# Altium integrated library HARTING DIN 41612 Type 2R.IntLib: 40 symbols
Pins are listed as number, name and electrical type; pins without a type are passive.

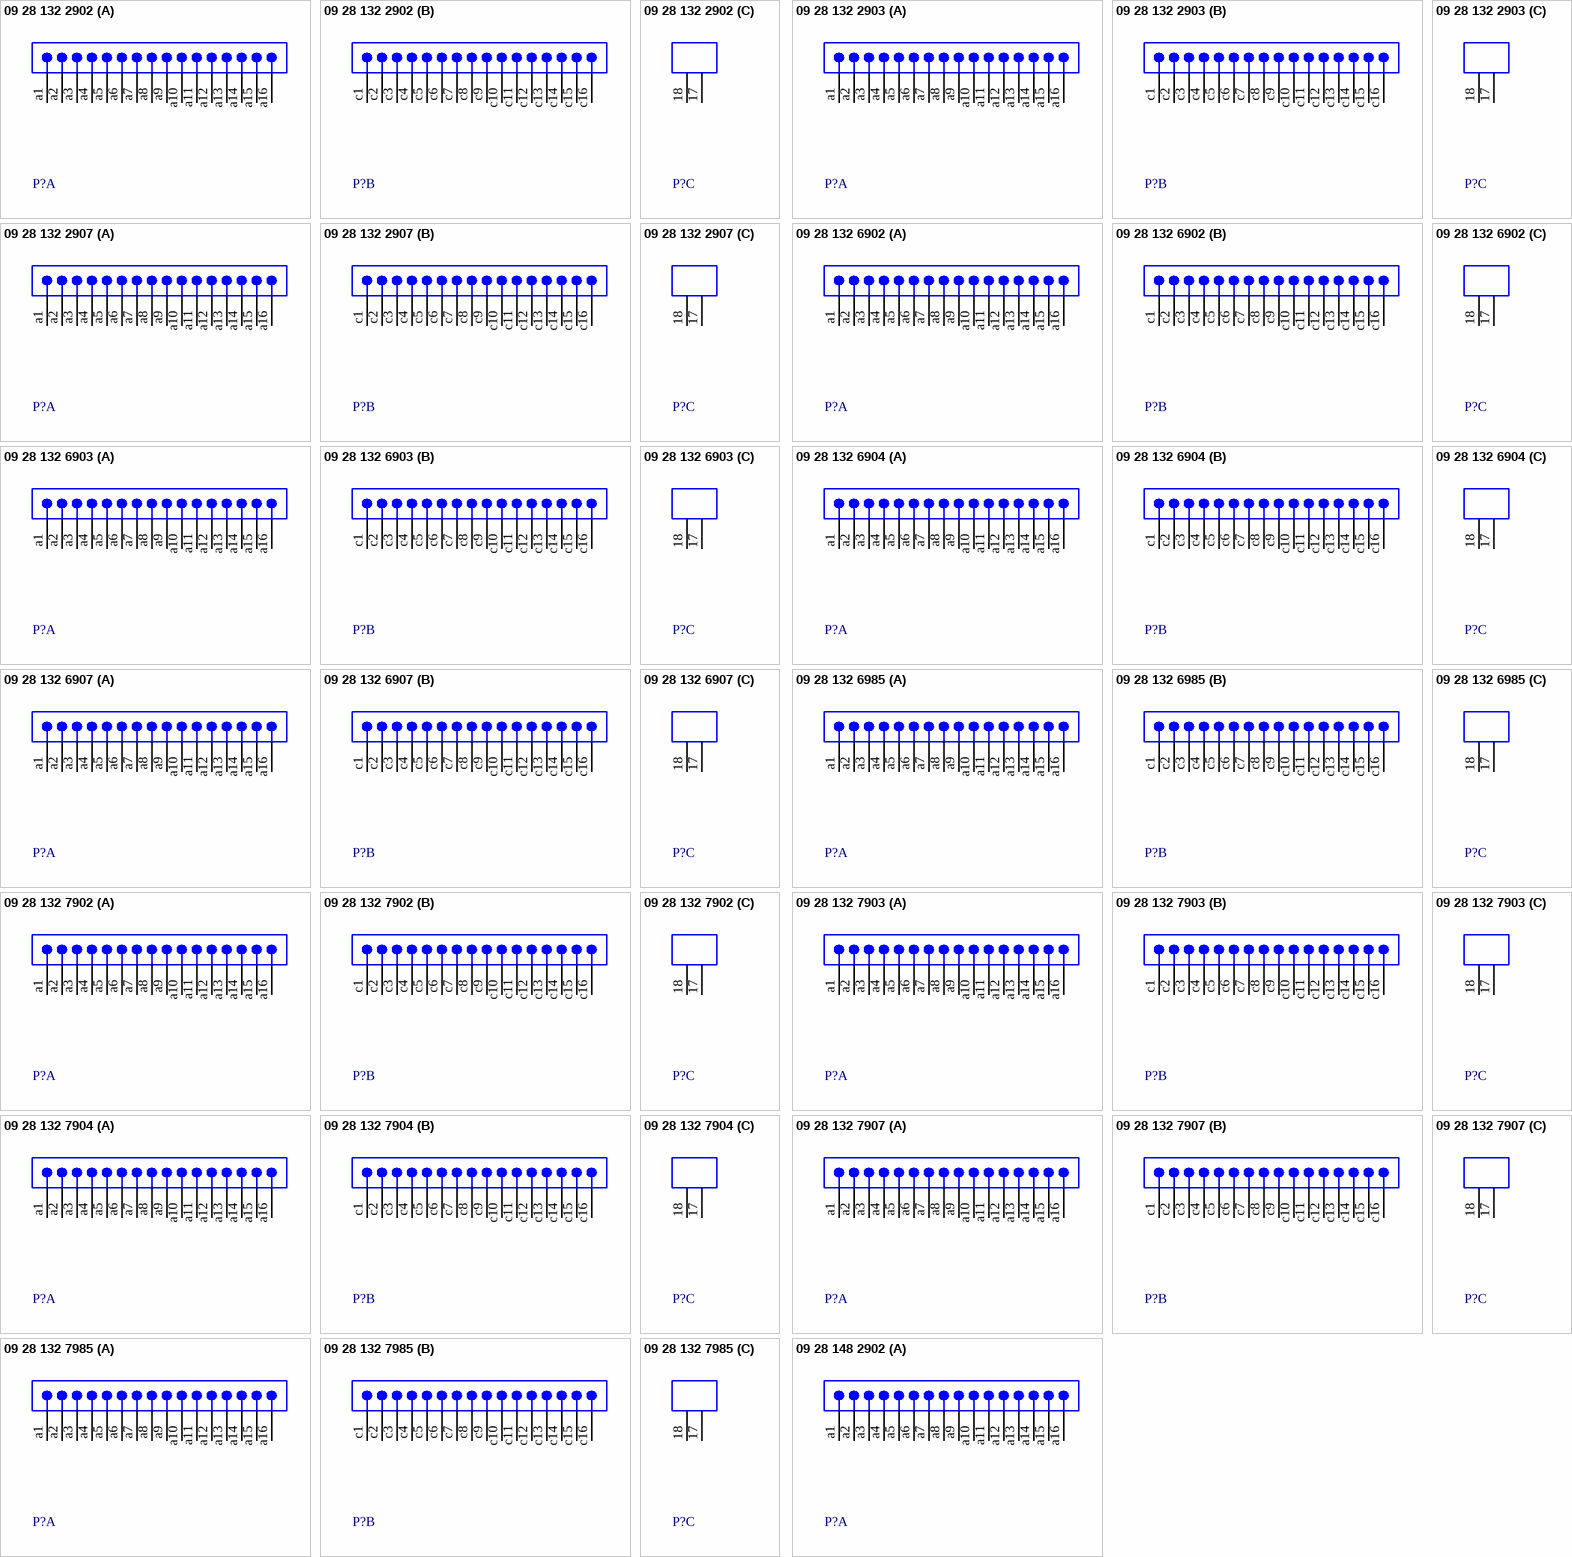
[diagram p0: symbols 09 28 132 2902 to 09 28 148 2902]

## 09 28 132 2902
designator P?
Eurocard DIN 41612, Type 2R, Half Size, 32 Position, Rows a+c, Performance level 1, Male, Lead 2.5 mm, Pitch 2.54 mm; DrillSize: Corresponds to nominal value.; Published: 6-Oct-2005; DatasheetDocument: 24-Nov-2004; PackageDocument: 12-Jun-2001; PackageReference: 0928132X902; Publisher: Altium Limited; ComponentLink1Description: Manufacturer Link; ComponentLink1URL: http://www.harting.com/; ComponentLink2Description: Packaging Specification; ComponentLink2URL: http://www.harkis.harting.com/_gds/pdf/TB_0928132x902_BL01_R29836.pdf
footprint 0928132X902 (Connector; DIN 41612, Type 2R, Thru-Hole; Rows a+c, 32 Position; Vertical)
signal-integrity model DIN 41612
part A pins: a1, a2, a3, a4, a5, a6, a7, a8, a9, a10, a11, a12, a13, a14, a15, a16
part B pins: c1, c2, c3, c4, c5, c6, c7, c8, c9, c10, c11, c12, c13, c14, c15, c16
part C pins: 17 MH1 "Mounting Fixture", 18 MH2 "Mounting Fixture"

## 09 28 132 2903
designator P?
Eurocard DIN 41612, Type 2R, Half Size, 32 Position, Rows a+c, Performance level 1, Male, Lead 4.0 mm, Pitch 2.54 mm; DrillSize: Corresponds to nominal value.; Published: 6-Oct-2005; DatasheetDocument: 24-Nov-2004; PackageDocument: 13-Jun-2001; PackageReference: 0928132X903; Publisher: Altium Limited; ComponentLink1Description: Manufacturer Link; ComponentLink1URL: http://www.harting.com/; ComponentLink2Description: Packaging Specification; ComponentLink2URL: http://www.harkis.harting.com/_gds/pdf/TB_0928132x903_BL01_R29836.pdf
footprint 0928132X903 (Connector; DIN 41612, Type 2R, Thru-Hole; Rows a+c, 32 Position; Vertical)
signal-integrity model DIN 41612
part A pins: a1, a2, a3, a4, a5, a6, a7, a8, a9, a10, a11, a12, a13, a14, a15, a16
part B pins: c1, c2, c3, c4, c5, c6, c7, c8, c9, c10, c11, c12, c13, c14, c15, c16
part C pins: 17 MH1 "Mounting Fixture", 18 MH2 "Mounting Fixture"

## 09 28 132 2907
designator P?
Eurocard DIN 41612, Type 2R, Half Size, 32 Position, Rows a+c, Performance level 1, Male, Lead 13.0 mm, Pitch 2.54 mm; DrillSize: Corresponds to nominal value.; Published: 6-Oct-2005; DatasheetDocument: 24-Nov-2004; PackageDocument: 13-Jun-2001; PackageReference: 0928132X907; Publisher: Altium Limited; ComponentLink1Description: Manufacturer Link; ComponentLink1URL: http://www.harting.com/; ComponentLink2Description: Packaging Specification; ComponentLink2URL: http://www.harkis.harting.com/_gds/pdf/TB_0928132x907_BL01_R29836.pdf
footprint 0928132X907 (Connector; DIN 41612, Type 2R, Thru-Hole; Rows a+c, 32 Position; Vertical)
signal-integrity model DIN 41612
part A pins: a1, a2, a3, a4, a5, a6, a7, a8, a9, a10, a11, a12, a13, a14, a15, a16
part B pins: c1, c2, c3, c4, c5, c6, c7, c8, c9, c10, c11, c12, c13, c14, c15, c16
part C pins: 17 MH1 "Mounting Fixture", 18 MH2 "Mounting Fixture"

## 09 28 132 6902
designator P?
Eurocard DIN 41612, Type 2R, Half Size, 32 Position, Rows a+c, Performance level 2, Male, Lead 2.5 mm, Pitch 2.54 mm; DrillSize: Corresponds to nominal value.; Published: 6-Oct-2005; DatasheetDocument: 24-Nov-2004; PackageDocument: 12-Jun-2001; PackageReference: 0928132X902; Publisher: Altium Limited; ComponentLink1Description: Manufacturer Link; ComponentLink1URL: http://www.harting.com/; ComponentLink2Description: Packaging Specification; ComponentLink2URL: http://www.harkis.harting.com/_gds/pdf/TB_0928132x902_BL01_R29836.pdf
footprint 0928132X902 (Connector; DIN 41612, Type 2R, Thru-Hole; Rows a+c, 32 Position; Vertical)
signal-integrity model DIN 41612
part A pins: a1, a2, a3, a4, a5, a6, a7, a8, a9, a10, a11, a12, a13, a14, a15, a16
part B pins: c1, c2, c3, c4, c5, c6, c7, c8, c9, c10, c11, c12, c13, c14, c15, c16
part C pins: 17 MH1 "Mounting Fixture", 18 MH2 "Mounting Fixture"

## 09 28 132 6903
designator P?
Eurocard DIN 41612, Type 2R, Half Size, 32 Position, Rows a+c, Performance level 2, Male, Lead 4.0 mm, Pitch 2.54 mm; DrillSize: Corresponds to nominal value.; Published: 6-Oct-2005; DatasheetDocument: 24-Nov-2004; PackageDocument: 13-Jun-2001; PackageReference: 0928132X903; Publisher: Altium Limited; ComponentLink1Description: Manufacturer Link; ComponentLink1URL: http://www.harting.com/; ComponentLink2Description: Packaging Specification; ComponentLink2URL: http://www.harkis.harting.com/_gds/pdf/TB_0928132x903_BL01_R29836.pdf
footprint 0928132X903 (Connector; DIN 41612, Type 2R, Thru-Hole; Rows a+c, 32 Position; Vertical)
signal-integrity model DIN 41612
part A pins: a1, a2, a3, a4, a5, a6, a7, a8, a9, a10, a11, a12, a13, a14, a15, a16
part B pins: c1, c2, c3, c4, c5, c6, c7, c8, c9, c10, c11, c12, c13, c14, c15, c16
part C pins: 17 MH1 "Mounting Fixture", 18 MH2 "Mounting Fixture"

## 09 28 132 6904
designator P?
Eurocard DIN 41612, Type 2R, Half Size, 32 Position, Rows a+c, Performance level 2, Male, Lead 5.0 mm, Pitch 2.54 mm; DrillSize: Corresponds to nominal value.; Published: 6-Oct-2005; DatasheetDocument: 24-Nov-2004; PackageDocument: 22-Jun-2001; PackageReference: 0928132X904; Publisher: Altium Limited; ComponentLink1Description: Manufacturer Link; ComponentLink1URL: http://www.harting.com/; ComponentLink2Description: Packaging Specification; ComponentLink2URL: http://www.harkis.harting.com/_gds/pdf/TB_0928132x904_BL01_R29835.pdf
footprint 0928132X904 (Connector; DIN 41612, Type 2R, Thru-Hole; Rows a+c, 32 Position; Vertical)
signal-integrity model DIN 41612
part A pins: a1, a2, a3, a4, a5, a6, a7, a8, a9, a10, a11, a12, a13, a14, a15, a16
part B pins: c1, c2, c3, c4, c5, c6, c7, c8, c9, c10, c11, c12, c13, c14, c15, c16
part C pins: 17 MH1 "Mounting Fixture", 18 MH2 "Mounting Fixture"

## 09 28 132 6907
designator P?
Eurocard DIN 41612, Type 2R, Half Size, 32 Position, Rows a+c, Performance level 2, Male, Lead 13.0 mm, Pitch 2.54 mm; DrillSize: Corresponds to nominal value.; Published: 6-Oct-2005; DatasheetDocument: 24-Nov-2004; PackageDocument: 13-Jun-2001; PackageReference: 0928132X907; Publisher: Altium Limited; ComponentLink1Description: Manufacturer Link; ComponentLink1URL: http://www.harting.com/; ComponentLink2Description: Packaging Specification; ComponentLink2URL: http://www.harkis.harting.com/_gds/pdf/TB_0928132x907_BL01_R29836.pdf
footprint 0928132X907 (Connector; DIN 41612, Type 2R, Thru-Hole; Rows a+c, 32 Position; Vertical)
signal-integrity model DIN 41612
part A pins: a1, a2, a3, a4, a5, a6, a7, a8, a9, a10, a11, a12, a13, a14, a15, a16
part B pins: c1, c2, c3, c4, c5, c6, c7, c8, c9, c10, c11, c12, c13, c14, c15, c16
part C pins: 17 MH1 "Mounting Fixture", 18 MH2 "Mounting Fixture"

## 09 28 132 6985
designator P?
Eurocard DIN 41612, Type 2R, Half Size, 32 Position, Rows a+c, Performance level 2, Male, Lead 13.0 mm, Pitch 2.54 mm; DrillSize: Corresponds to nominal value.; Published: 6-Oct-2005; DatasheetDocument: 24-Nov-2004; PackageDocument: 22-Jun-2001; PackageReference: 0928132X985; Publisher: Altium Limited; ComponentLink1Description: Manufacturer Link; ComponentLink1URL: http://www.harting.com/; ComponentLink2Description: Packaging Specification; ComponentLink2URL: http://www.harkis.harting.com/_gds/pdf/TB_0928132x985_BL01_R29835.pdf
footprint 0928132X985 (Connector; DIN 41612, Type 2R, Thru-Hole; Rows a+c, 32 Position; Vertical)
signal-integrity model DIN 41612
part A pins: a1, a2, a3, a4, a5, a6, a7, a8, a9, a10, a11, a12, a13, a14, a15, a16
part B pins: c1, c2, c3, c4, c5, c6, c7, c8, c9, c10, c11, c12, c13, c14, c15, c16
part C pins: 17 MH1 "Mounting Fixture", 18 MH2 "Mounting Fixture"

## 09 28 132 7902
designator P?
Eurocard DIN 41612, Type 2R, Half Size, 32 Position, Rows a+c, Performance level 3, Male, Lead 2.5 mm, Pitch 2.54 mm; DrillSize: Corresponds to nominal value.; Published: 6-Oct-2005; DatasheetDocument: 24-Nov-2004; PackageDocument: 12-Jun-2001; PackageReference: 0928132X902; Publisher: Altium Limited; ComponentLink1Description: Manufacturer Link; ComponentLink1URL: http://www.harting.com/; ComponentLink2Description: Packaging Specification; ComponentLink2URL: http://www.harkis.harting.com/_gds/pdf/TB_0928132x902_BL01_R29836.pdf
footprint 0928132X902 (Connector; DIN 41612, Type 2R, Thru-Hole; Rows a+c, 32 Position; Vertical)
signal-integrity model DIN 41612
part A pins: a1, a2, a3, a4, a5, a6, a7, a8, a9, a10, a11, a12, a13, a14, a15, a16
part B pins: c1, c2, c3, c4, c5, c6, c7, c8, c9, c10, c11, c12, c13, c14, c15, c16
part C pins: 17 MH1 "Mounting Fixture", 18 MH2 "Mounting Fixture"

## 09 28 132 7903
designator P?
Eurocard DIN 41612, Type 2R, Half Size, 32 Position, Rows a+c, Performance level 3, Male, Lead 4.0 mm, Pitch 2.54 mm; DrillSize: Corresponds to nominal value.; Published: 6-Oct-2005; DatasheetDocument: 24-Nov-2004; PackageDocument: 13-Jun-2001; PackageReference: 0928132X903; Publisher: Altium Limited; ComponentLink1Description: Manufacturer Link; ComponentLink1URL: http://www.harting.com/; ComponentLink2Description: Packaging Specification; ComponentLink2URL: http://www.harkis.harting.com/_gds/pdf/TB_0928132x903_BL01_R29836.pdf
footprint 0928132X903 (Connector; DIN 41612, Type 2R, Thru-Hole; Rows a+c, 32 Position; Vertical)
signal-integrity model DIN 41612
part A pins: a1, a2, a3, a4, a5, a6, a7, a8, a9, a10, a11, a12, a13, a14, a15, a16
part B pins: c1, c2, c3, c4, c5, c6, c7, c8, c9, c10, c11, c12, c13, c14, c15, c16
part C pins: 17 MH1 "Mounting Fixture", 18 MH2 "Mounting Fixture"

## 09 28 132 7904
designator P?
Eurocard DIN 41612, Type 2R, Half Size, 32 Position, Rows a+c, Performance level 3, Male, Lead 5.0 mm, Pitch 2.54 mm; DrillSize: Corresponds to nominal value.; Published: 6-Oct-2005; DatasheetDocument: 24-Nov-2004; PackageDocument: 22-Jun-2001; PackageReference: 0928132X904; Publisher: Altium Limited; ComponentLink1Description: Manufacturer Link; ComponentLink1URL: http://www.harting.com/; ComponentLink2Description: Packaging Specification; ComponentLink2URL: http://www.harkis.harting.com/_gds/pdf/TB_0928132x904_BL01_R29835.pdf
footprint 0928132X904 (Connector; DIN 41612, Type 2R, Thru-Hole; Rows a+c, 32 Position; Vertical)
signal-integrity model DIN 41612
part A pins: a1, a2, a3, a4, a5, a6, a7, a8, a9, a10, a11, a12, a13, a14, a15, a16
part B pins: c1, c2, c3, c4, c5, c6, c7, c8, c9, c10, c11, c12, c13, c14, c15, c16
part C pins: 17 MH1 "Mounting Fixture", 18 MH2 "Mounting Fixture"

## 09 28 132 7907
designator P?
Eurocard DIN 41612, Type 2R, Half Size, 32 Position, Rows a+c, Performance level 3, Male, Lead 13.0 mm, Pitch 2.54 mm; DrillSize: Corresponds to nominal value.; Published: 6-Oct-2005; DatasheetDocument: 24-Nov-2004; PackageDocument: 13-Jun-2001; PackageReference: 0928132X907; Publisher: Altium Limited; ComponentLink1Description: Manufacturer Link; ComponentLink1URL: http://www.harting.com/; ComponentLink2Description: Packaging Specification; ComponentLink2URL: http://www.harkis.harting.com/_gds/pdf/TB_0928132x907_BL01_R29836.pdf
footprint 0928132X907 (Connector; DIN 41612, Type 2R, Thru-Hole; Rows a+c, 32 Position; Vertical)
signal-integrity model DIN 41612
part A pins: a1, a2, a3, a4, a5, a6, a7, a8, a9, a10, a11, a12, a13, a14, a15, a16
part B pins: c1, c2, c3, c4, c5, c6, c7, c8, c9, c10, c11, c12, c13, c14, c15, c16
part C pins: 17 MH1 "Mounting Fixture", 18 MH2 "Mounting Fixture"

## 09 28 132 7985
designator P?
Eurocard DIN 41612, Type 2R, Half Size, 32 Position, Rows a+c, Performance level 3, Male, Lead 13.0 mm, Pitch 2.54 mm; DrillSize: Corresponds to nominal value.; Published: 6-Oct-2005; DatasheetDocument: 24-Nov-2004; PackageDocument: 22-Jun-2001; PackageReference: 0928132X985; Publisher: Altium Limited; ComponentLink1Description: Manufacturer Link; ComponentLink1URL: http://www.harting.com/; ComponentLink2Description: Packaging Specification; ComponentLink2URL: http://www.harkis.harting.com/_gds/pdf/TB_0928132x985_BL01_R29835.pdf
footprint 0928132X985 (Connector; DIN 41612, Type 2R, Thru-Hole; Rows a+c, 32 Position; Vertical)
signal-integrity model DIN 41612
part A pins: a1, a2, a3, a4, a5, a6, a7, a8, a9, a10, a11, a12, a13, a14, a15, a16
part B pins: c1, c2, c3, c4, c5, c6, c7, c8, c9, c10, c11, c12, c13, c14, c15, c16
part C pins: 17 MH1 "Mounting Fixture", 18 MH2 "Mounting Fixture"

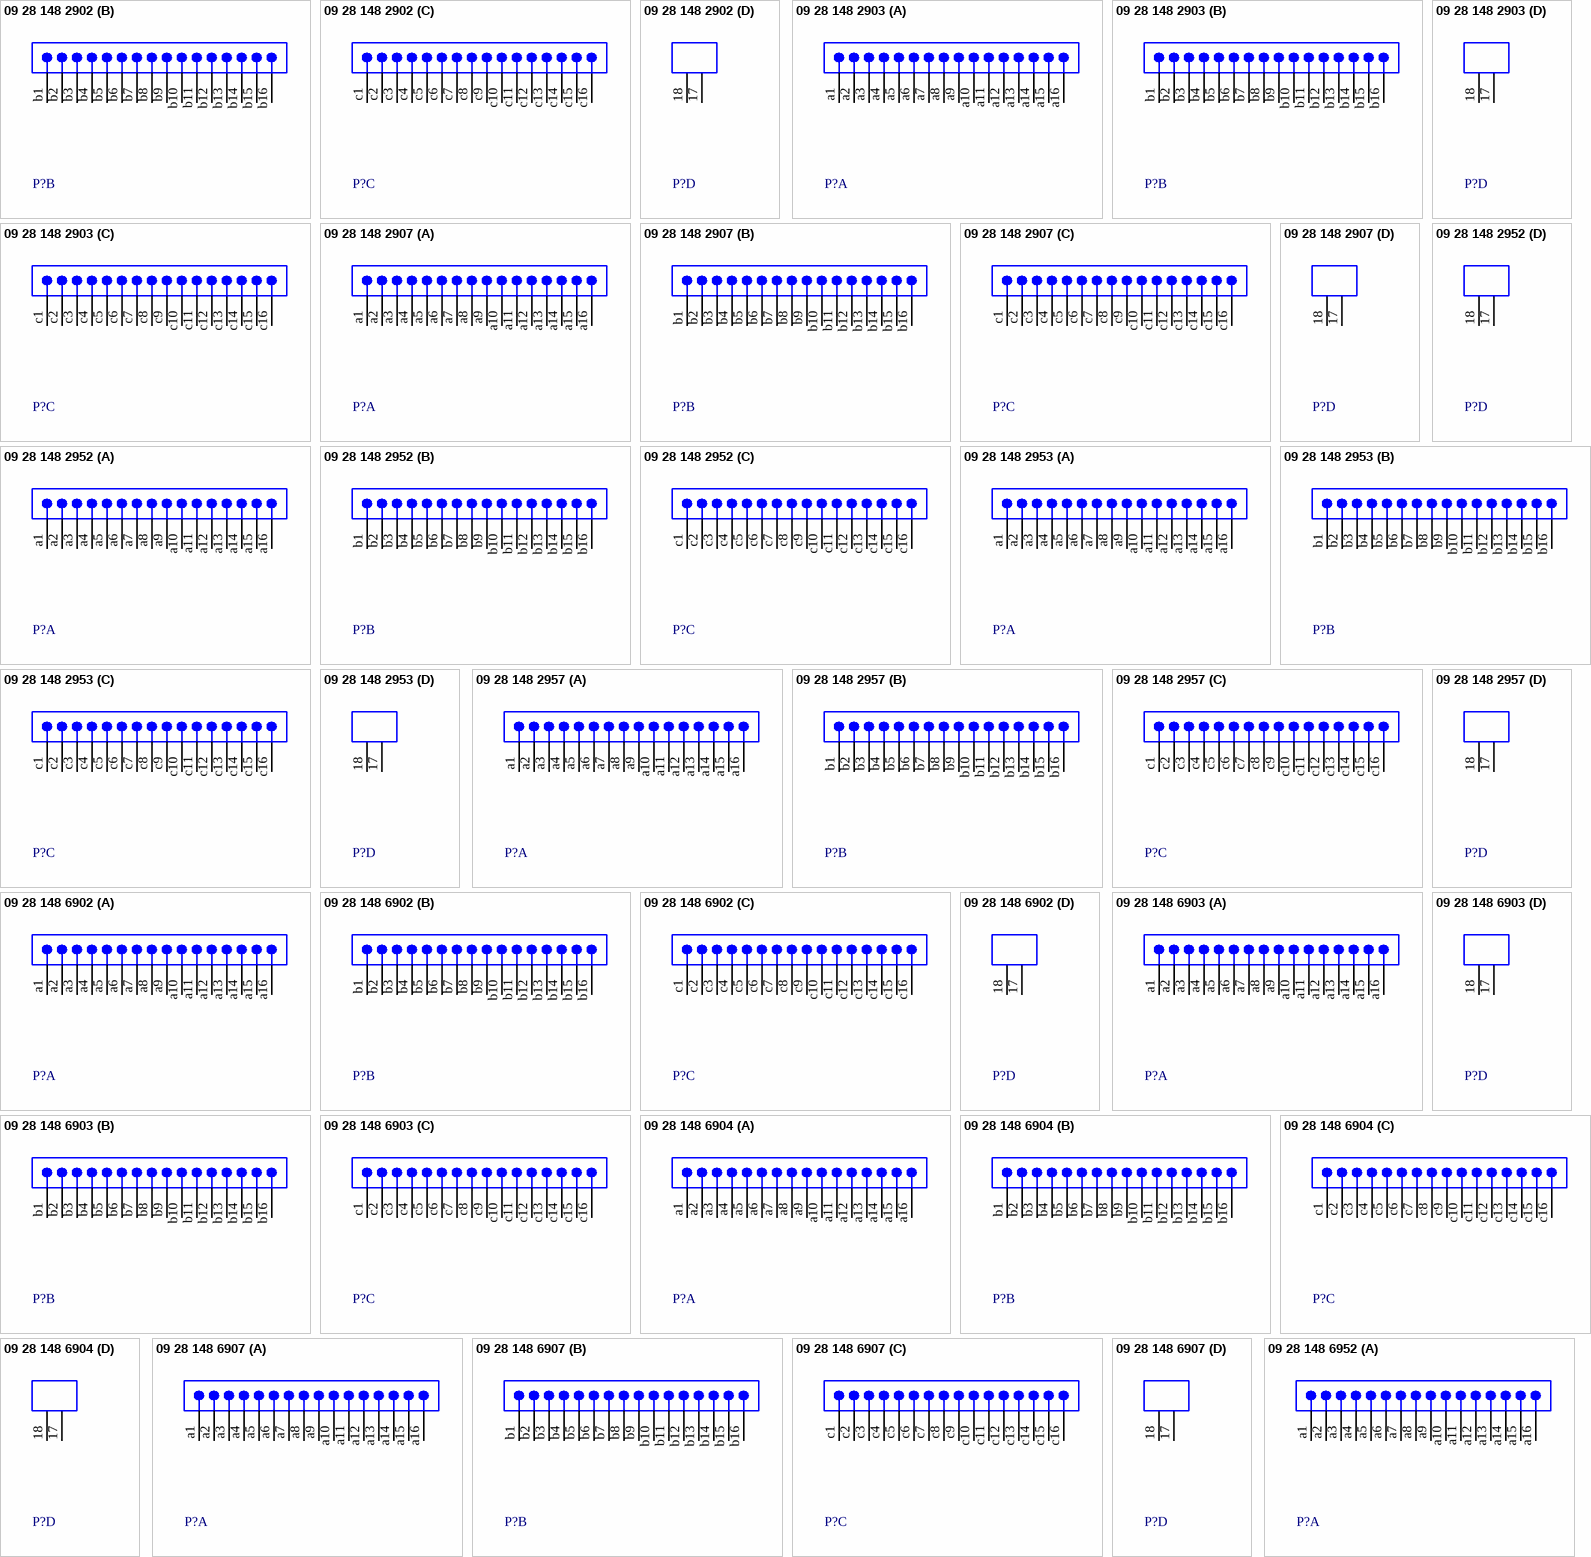
[diagram p1: symbols 09 28 148 2902 to 09 28 148 6952]

## 09 28 148 2902
designator P?
Eurocard DIN 41612, Type 2R, Half Size, 48 Position, Rows a+b+c, Performance level 1, Male, Lead 2.5 mm, Pitch 2.54 mm; DrillSize: Corresponds to nominal value.; Published: 6-Oct-2005; DatasheetDocument: 24-Nov-2004; PackageDocument: 11-Jun-2001; PackageReference: 0928148X902; Publisher: Altium Limited; ComponentLink1Description: Manufacturer Link; ComponentLink1URL: http://www.harting.com/; ComponentLink2Description: Packaging Specification; ComponentLink2URL: http://www.harkis.harting.com/_gds/pdf/TB_0928148x902_BL01_R29836.pdf
footprint 0928148X902 (Connector; DIN 41612, Type 2R, Thru-Hole; Rows a+b+c, 48 Position; Vertical)
signal-integrity model DIN 41612
part A pins: a1, a2, a3, a4, a5, a6, a7, a8, a9, a10, a11, a12, a13, a14, a15, a16
part B pins: b1, b2, b3, b4, b5, b6, b7, b8, b9, b10, b11, b12, b13, b14, b15, b16
part C pins: c1, c2, c3, c4, c5, c6, c7, c8, c9, c10, c11, c12, c13, c14, c15, c16
part D pins: 17 MH1 "Mounting Fixture", 18 MH2 "Mounting Fixture"

## 09 28 148 2903
designator P?
Eurocard DIN 41612, Type 2R, Half Size, 48 Position, Rows a+b+c, Performance level 1, Male, Lead 4.0 mm, Pitch 2.54 mm; DrillSize: Corresponds to nominal value.; Published: 6-Oct-2005; DatasheetDocument: 24-Nov-2004; PackageDocument: 11-Jun-2001; PackageReference: 0928148X903; Publisher: Altium Limited; ComponentLink1Description: Manufacturer Link; ComponentLink1URL: http://www.harting.com/; ComponentLink2Description: Packaging Specification; ComponentLink2URL: http://www.harkis.harting.com/_gds/pdf/TB_0928148x903_BL01_R29836.pdf
footprint 0928148X903 (Connector; DIN 41612, Type 2R, Thru-Hole; Rows a+b+c, 48 Position; Vertical)
signal-integrity model DIN 41612
part A pins: a1, a2, a3, a4, a5, a6, a7, a8, a9, a10, a11, a12, a13, a14, a15, a16
part B pins: b1, b2, b3, b4, b5, b6, b7, b8, b9, b10, b11, b12, b13, b14, b15, b16
part C pins: c1, c2, c3, c4, c5, c6, c7, c8, c9, c10, c11, c12, c13, c14, c15, c16
part D pins: 17 MH1 "Mounting Fixture", 18 MH2 "Mounting Fixture"

## 09 28 148 2907
designator P?
Eurocard DIN 41612, Type 2R, Half Size, 48 Position, Rows a+b+c, Performance level 1, Male, Lead 13.0 mm, Pitch 2.54 mm; DrillSize: Corresponds to nominal value.; Published: 6-Oct-2005; DatasheetDocument: 24-Nov-2004; PackageDocument: 07-Jun-2001; PackageReference: 0928148X907; Publisher: Altium Limited; ComponentLink1Description: Manufacturer Link; ComponentLink1URL: http://www.harting.com/; ComponentLink2Description: Packaging Specification; ComponentLink2URL: http://www.harkis.harting.com/_gds/pdf/TB_0928148x907_BL01_R29836.pdf
footprint 0928148X907 (Connector; DIN 41612, Type 2R, Thru-Hole; Rows a+b+c, 48 Position; Vertical)
signal-integrity model DIN 41612
part A pins: a1, a2, a3, a4, a5, a6, a7, a8, a9, a10, a11, a12, a13, a14, a15, a16
part B pins: b1, b2, b3, b4, b5, b6, b7, b8, b9, b10, b11, b12, b13, b14, b15, b16
part C pins: c1, c2, c3, c4, c5, c6, c7, c8, c9, c10, c11, c12, c13, c14, c15, c16
part D pins: 17 MH1 "Mounting Fixture", 18 MH2 "Mounting Fixture"

## 09 28 148 2952
designator P?
Eurocard DIN 41612, Type 2R, Half Size, 46+2 Position, Rows a+b+c, Performance level 1, Male, Lead 2.5 mm, Pitch 2.54 mm; Note: Two leading contacts at positions a1 & a16.; DrillSize: Corresponds to nominal value.; Published: 6-Oct-2005; DatasheetDocument: 24-Nov-2004; PackageReference: 0928148X952; Publisher: Altium Limited; ComponentLink1Description: Manufacturer Link; ComponentLink1URL: http://www.harting.com/
footprint 0928148X952 (Connector; DIN 41612, Type 2R, Thru-Hole; Rows a+b+c, 48 Position; Vertical)
signal-integrity model DIN 41612
part A pins: a1, a2, a3, a4, a5, a6, a7, a8, a9, a10, a11, a12, a13, a14, a15, a16
part B pins: b1, b2, b3, b4, b5, b6, b7, b8, b9, b10, b11, b12, b13, b14, b15, b16
part C pins: c1, c2, c3, c4, c5, c6, c7, c8, c9, c10, c11, c12, c13, c14, c15, c16
part D pins: 17 MH1 "Mounting Fixture", 18 MH2 "Mounting Fixture"

## 09 28 148 2953
designator P?
Eurocard DIN 41612, Type 2R, Half Size, 46+2 Position, Rows a+b+c, Performance level 1, Male, Lead 4.0 mm, Pitch 2.54 mm; Note: Two leading contacts at positions a1 & a16.; DrillSize: Corresponds to nominal value.; Published: 6-Oct-2005; DatasheetDocument: 24-Nov-2004; PackageReference: 0928148X953; Publisher: Altium Limited; ComponentLink1Description: Manufacturer Link; ComponentLink1URL: http://www.harting.com/
footprint 0928148X953 (Connector; DIN 41612, Type 2R, Thru-Hole; Rows a+b+c, 48 Position; Vertical)
signal-integrity model DIN 41612
part A pins: a1, a2, a3, a4, a5, a6, a7, a8, a9, a10, a11, a12, a13, a14, a15, a16
part B pins: b1, b2, b3, b4, b5, b6, b7, b8, b9, b10, b11, b12, b13, b14, b15, b16
part C pins: c1, c2, c3, c4, c5, c6, c7, c8, c9, c10, c11, c12, c13, c14, c15, c16
part D pins: 17 MH1 "Mounting Fixture", 18 MH2 "Mounting Fixture"

## 09 28 148 2957
designator P?
Eurocard DIN 41612, Type 2R, Half Size, 46+2 Position, Rows a+b+c, Performance level 1, Male, Lead 13.0 mm, Pitch 2.54 mm; Note: Two leading contacts at positions a1 & a16.; DrillSize: Corresponds to nominal value.; Published: 6-Oct-2005; DatasheetDocument: 24-Nov-2004; PackageReference: 0928148X957; Publisher: Altium Limited; ComponentLink1Description: Manufacturer Link; ComponentLink1URL: http://www.harting.com/
footprint 0928148X957 (Connector; DIN 41612, Type 2R, Thru-Hole; Rows a+b+c, 48 Position; Vertical)
signal-integrity model DIN 41612
part A pins: a1, a2, a3, a4, a5, a6, a7, a8, a9, a10, a11, a12, a13, a14, a15, a16
part B pins: b1, b2, b3, b4, b5, b6, b7, b8, b9, b10, b11, b12, b13, b14, b15, b16
part C pins: c1, c2, c3, c4, c5, c6, c7, c8, c9, c10, c11, c12, c13, c14, c15, c16
part D pins: 17 MH1 "Mounting Fixture", 18 MH2 "Mounting Fixture"

## 09 28 148 6902
designator P?
Eurocard DIN 41612, Type 2R, Half Size, 48 Position, Rows a+b+c, Performance level 2, Male, Lead 2.5 mm, Pitch 2.54 mm; DrillSize: Corresponds to nominal value.; Published: 6-Oct-2005; DatasheetDocument: 24-Nov-2004; PackageDocument: 11-Jun-2001; PackageReference: 0928148X902; Publisher: Altium Limited; ComponentLink1Description: Manufacturer Link; ComponentLink1URL: http://www.harting.com/; ComponentLink2Description: Packaging Specification; ComponentLink2URL: http://www.harkis.harting.com/_gds/pdf/TB_0928148x902_BL01_R29836.pdf
footprint 0928148X902 (Connector; DIN 41612, Type 2R, Thru-Hole; Rows a+b+c, 48 Position; Vertical)
signal-integrity model DIN 41612
part A pins: a1, a2, a3, a4, a5, a6, a7, a8, a9, a10, a11, a12, a13, a14, a15, a16
part B pins: b1, b2, b3, b4, b5, b6, b7, b8, b9, b10, b11, b12, b13, b14, b15, b16
part C pins: c1, c2, c3, c4, c5, c6, c7, c8, c9, c10, c11, c12, c13, c14, c15, c16
part D pins: 17 MH1 "Mounting Fixture", 18 MH2 "Mounting Fixture"

## 09 28 148 6903
designator P?
Eurocard DIN 41612, Type 2R, Half Size, 48 Position, Rows a+b+c, Performance level 2, Male, Lead 4.0 mm, Pitch 2.54 mm; DrillSize: Corresponds to nominal value.; Published: 6-Oct-2005; DatasheetDocument: 24-Nov-2004; PackageDocument: 11-Jun-2001; PackageReference: 0928148X903; Publisher: Altium Limited; ComponentLink1Description: Manufacturer Link; ComponentLink1URL: http://www.harting.com/; ComponentLink2Description: Packaging Specification; ComponentLink2URL: http://www.harkis.harting.com/_gds/pdf/TB_0928148x903_BL01_R29836.pdf
footprint 0928148X903 (Connector; DIN 41612, Type 2R, Thru-Hole; Rows a+b+c, 48 Position; Vertical)
signal-integrity model DIN 41612
part A pins: a1, a2, a3, a4, a5, a6, a7, a8, a9, a10, a11, a12, a13, a14, a15, a16
part B pins: b1, b2, b3, b4, b5, b6, b7, b8, b9, b10, b11, b12, b13, b14, b15, b16
part C pins: c1, c2, c3, c4, c5, c6, c7, c8, c9, c10, c11, c12, c13, c14, c15, c16
part D pins: 17 MH1 "Mounting Fixture", 18 MH2 "Mounting Fixture"

## 09 28 148 6904
designator P?
Eurocard DIN 41612, Type 2R, Half Size, 48 Position, Rows a+b+c, Performance level 2, Male, Lead 5.0 mm, Pitch 2.54 mm; DrillSize: Corresponds to nominal value.; Published: 6-Oct-2005; DatasheetDocument: 24-Nov-2004; PackageDocument: 21-Jun-2001; PackageReference: 0928148X904; Publisher: Altium Limited; ComponentLink1Description: Manufacturer Link; ComponentLink1URL: http://www.harting.com/; ComponentLink2Description: Packaging Specification; ComponentLink2URL: http://www.harkis.harting.com/_gds/pdf/TB_0928148x904_BL01_R29835.pdf
footprint 0928148X904 (Connector; DIN 41612, Type 2R, Thru-Hole; Rows a+b+c, 48 Position; Vertical)
signal-integrity model DIN 41612
part A pins: a1, a2, a3, a4, a5, a6, a7, a8, a9, a10, a11, a12, a13, a14, a15, a16
part B pins: b1, b2, b3, b4, b5, b6, b7, b8, b9, b10, b11, b12, b13, b14, b15, b16
part C pins: c1, c2, c3, c4, c5, c6, c7, c8, c9, c10, c11, c12, c13, c14, c15, c16
part D pins: 17 MH1 "Mounting Fixture", 18 MH2 "Mounting Fixture"

## 09 28 148 6907
designator P?
Eurocard DIN 41612, Type 2R, Half Size, 48 Position, Rows a+b+c, Performance level 2, Male, Lead 13.0 mm, Pitch 2.54 mm; DrillSize: Corresponds to nominal value.; Published: 6-Oct-2005; DatasheetDocument: 24-Nov-2004; PackageDocument: 07-Jun-2001; PackageReference: 0928148X907; Publisher: Altium Limited; ComponentLink1Description: Manufacturer Link; ComponentLink1URL: http://www.harting.com/; ComponentLink2Description: Packaging Specification; ComponentLink2URL: http://www.harkis.harting.com/_gds/pdf/TB_0928148x907_BL01_R29836.pdf
footprint 0928148X907 (Connector; DIN 41612, Type 2R, Thru-Hole; Rows a+b+c, 48 Position; Vertical)
signal-integrity model DIN 41612
part A pins: a1, a2, a3, a4, a5, a6, a7, a8, a9, a10, a11, a12, a13, a14, a15, a16
part B pins: b1, b2, b3, b4, b5, b6, b7, b8, b9, b10, b11, b12, b13, b14, b15, b16
part C pins: c1, c2, c3, c4, c5, c6, c7, c8, c9, c10, c11, c12, c13, c14, c15, c16
part D pins: 17 MH1 "Mounting Fixture", 18 MH2 "Mounting Fixture"

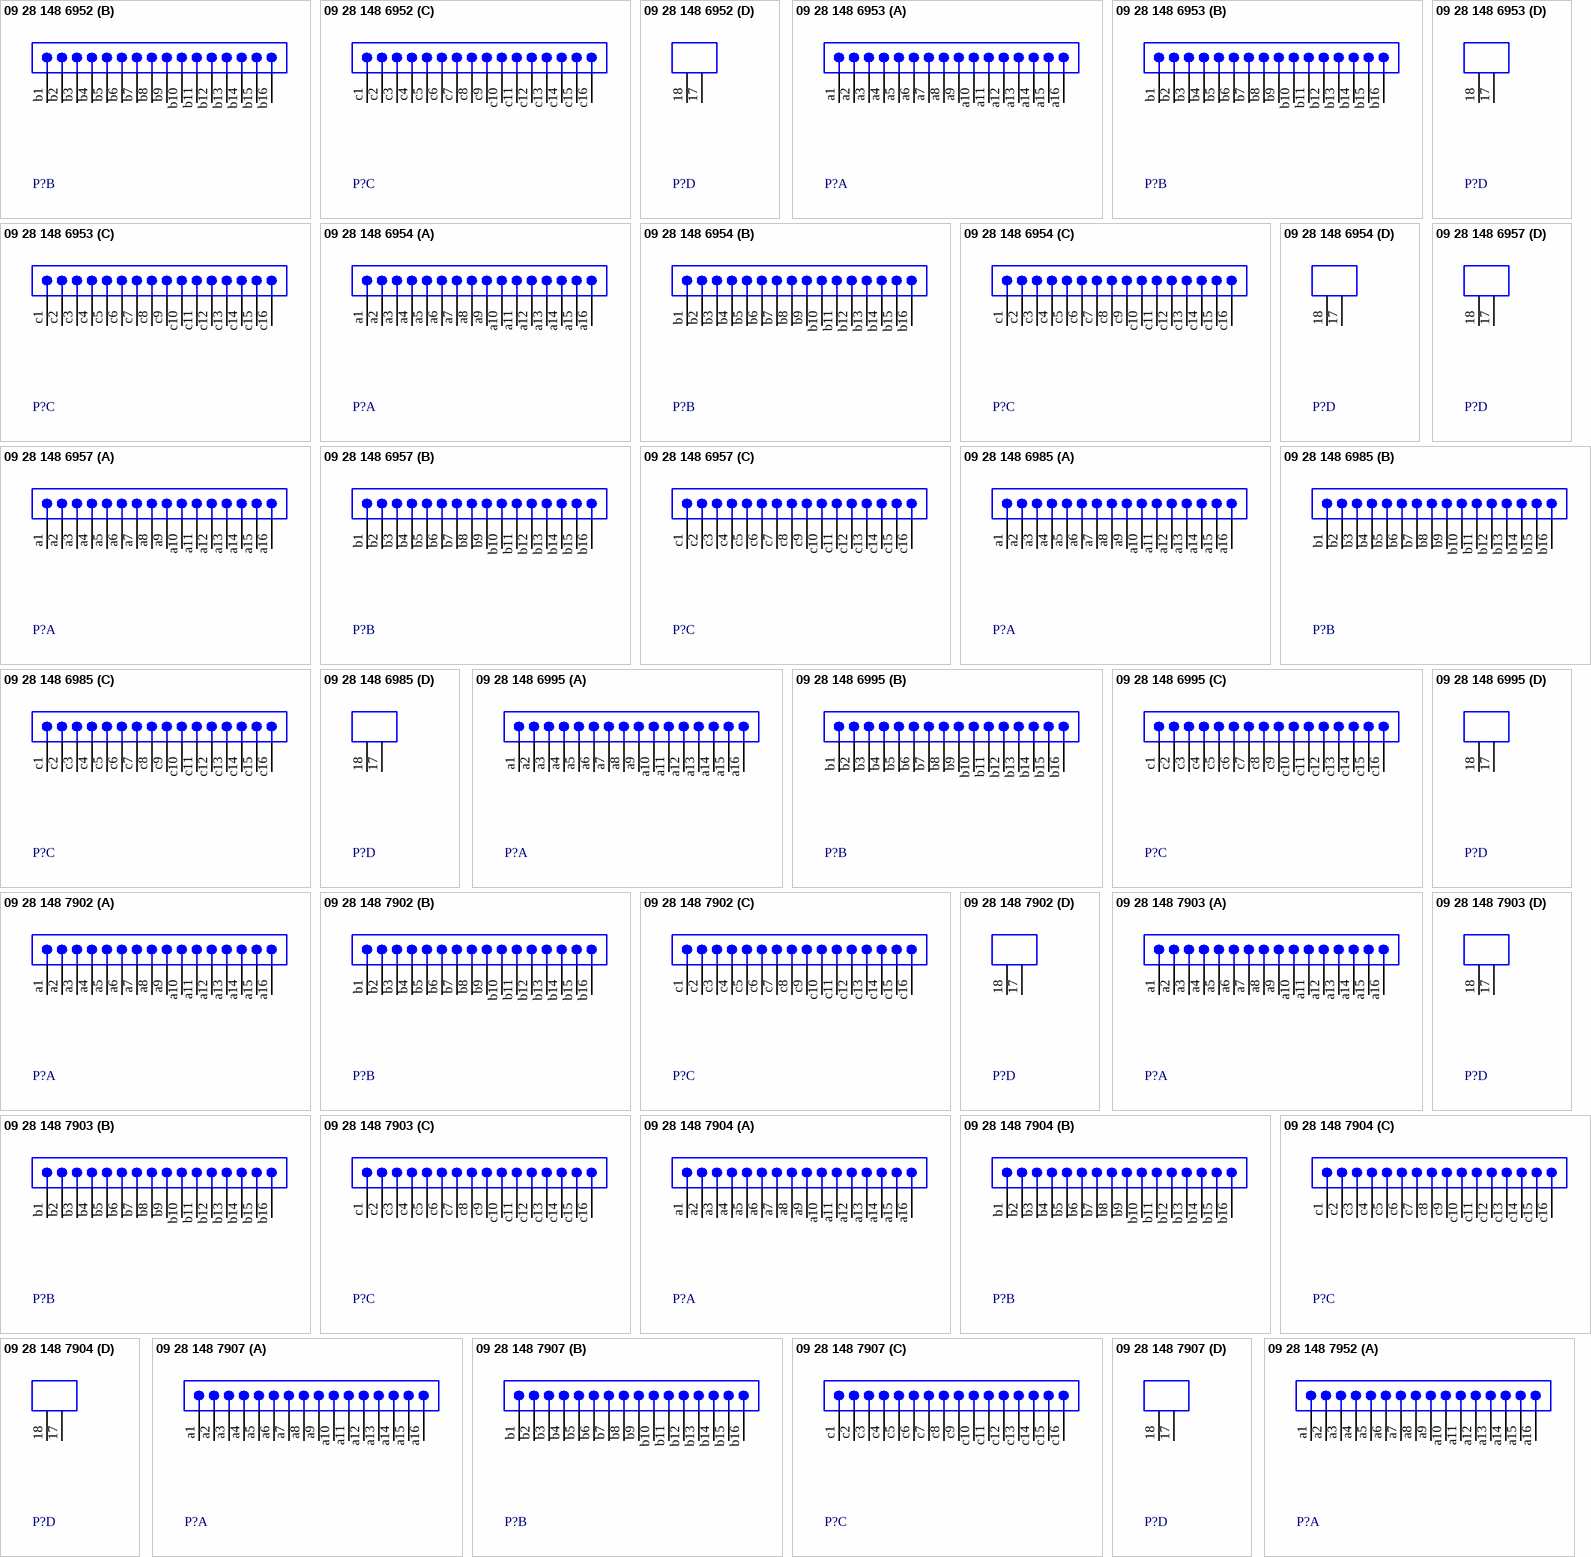
[diagram p2: symbols 09 28 148 6952 to 09 28 148 7952]

## 09 28 148 6952
designator P?
Eurocard DIN 41612, Type 2R, Half Size, 46+2 Position, Rows a+b+c, Performance level 2, Male, Lead 2.5 mm, Pitch 2.54 mm; Note: Two leading contacts at positions a1 & a16.; DrillSize: Corresponds to nominal value.; Published: 6-Oct-2005; DatasheetDocument: 24-Nov-2004; PackageReference: 0928148X952; Publisher: Altium Limited; ComponentLink1Description: Manufacturer Link; ComponentLink1URL: http://www.harting.com/
footprint 0928148X952 (Connector; DIN 41612, Type 2R, Thru-Hole; Rows a+b+c, 48 Position; Vertical)
signal-integrity model DIN 41612
part A pins: a1, a2, a3, a4, a5, a6, a7, a8, a9, a10, a11, a12, a13, a14, a15, a16
part B pins: b1, b2, b3, b4, b5, b6, b7, b8, b9, b10, b11, b12, b13, b14, b15, b16
part C pins: c1, c2, c3, c4, c5, c6, c7, c8, c9, c10, c11, c12, c13, c14, c15, c16
part D pins: 17 MH1 "Mounting Fixture", 18 MH2 "Mounting Fixture"

## 09 28 148 6953
designator P?
Eurocard DIN 41612, Type 2R, Half Size, 46+2 Position, Rows a+b+c, Performance level 2, Male, Lead 4.0 mm, Pitch 2.54 mm; Note: Two leading contacts at positions a1 & a16.; DrillSize: Corresponds to nominal value.; Published: 6-Oct-2005; DatasheetDocument: 24-Nov-2004; PackageReference: 0928148X953; Publisher: Altium Limited; ComponentLink1Description: Manufacturer Link; ComponentLink1URL: http://www.harting.com/
footprint 0928148X953 (Connector; DIN 41612, Type 2R, Thru-Hole; Rows a+b+c, 48 Position; Vertical)
signal-integrity model DIN 41612
part A pins: a1, a2, a3, a4, a5, a6, a7, a8, a9, a10, a11, a12, a13, a14, a15, a16
part B pins: b1, b2, b3, b4, b5, b6, b7, b8, b9, b10, b11, b12, b13, b14, b15, b16
part C pins: c1, c2, c3, c4, c5, c6, c7, c8, c9, c10, c11, c12, c13, c14, c15, c16
part D pins: 17 MH1 "Mounting Fixture", 18 MH2 "Mounting Fixture"

## 09 28 148 6954
designator P?
Eurocard DIN 41612, Type 2R, Half Size, 46+2 Position, Rows a+b+c, Performance level 2, Male, Lead 5.0 mm, Pitch 2.54 mm; Note: Two leading contacts at positions a1 & a16.; DrillSize: Corresponds to nominal value.; Published: 6-Oct-2005; DatasheetDocument: 24-Nov-2004; PackageReference: 0928148X954; Publisher: Altium Limited; ComponentLink1Description: Manufacturer Link; ComponentLink1URL: http://www.harting.com/
footprint 0928148X954 (Connector; DIN 41612, Type 2R, Thru-Hole; Rows a+b+c, 48 Position; Vertical)
signal-integrity model DIN 41612
part A pins: a1, a2, a3, a4, a5, a6, a7, a8, a9, a10, a11, a12, a13, a14, a15, a16
part B pins: b1, b2, b3, b4, b5, b6, b7, b8, b9, b10, b11, b12, b13, b14, b15, b16
part C pins: c1, c2, c3, c4, c5, c6, c7, c8, c9, c10, c11, c12, c13, c14, c15, c16
part D pins: 17 MH1 "Mounting Fixture", 18 MH2 "Mounting Fixture"

## 09 28 148 6957
designator P?
Eurocard DIN 41612, Type 2R, Half Size, 46+2 Position, Rows a+b+c, Performance level 2, Male, Lead 13.0 mm, Pitch 2.54 mm; Note: Two leading contacts at positions a1 & a16.; DrillSize: Corresponds to nominal value.; Published: 6-Oct-2005; DatasheetDocument: 24-Nov-2004; PackageReference: 0928148X957; Publisher: Altium Limited; ComponentLink1Description: Manufacturer Link; ComponentLink1URL: http://www.harting.com/
footprint 0928148X957 (Connector; DIN 41612, Type 2R, Thru-Hole; Rows a+b+c, 48 Position; Vertical)
signal-integrity model DIN 41612
part A pins: a1, a2, a3, a4, a5, a6, a7, a8, a9, a10, a11, a12, a13, a14, a15, a16
part B pins: b1, b2, b3, b4, b5, b6, b7, b8, b9, b10, b11, b12, b13, b14, b15, b16
part C pins: c1, c2, c3, c4, c5, c6, c7, c8, c9, c10, c11, c12, c13, c14, c15, c16
part D pins: 17 MH1 "Mounting Fixture", 18 MH2 "Mounting Fixture"

## 09 28 148 6985
designator P?
Eurocard DIN 41612, Type 2R, Half Size, 48 Position, Rows a+b+c, Performance level 2, Male, Lead 13.0 mm, Pitch 2.54 mm; DrillSize: Corresponds to nominal value.; Published: 6-Oct-2005; DatasheetDocument: 24-Nov-2004; PackageDocument: 07-Jun-2001; PackageReference: 0928148X985; Publisher: Altium Limited; ComponentLink1Description: Manufacturer Link; ComponentLink1URL: http://www.harting.com/; ComponentLink2Description: Packaging Specification; ComponentLink2URL: http://www.harkis.harting.com/_gds/pdf/TB_0928148x985_BL01_R29835.pdf
footprint 0928148X985 (Connector; DIN 41612, Type 2R, Thru-Hole; Rows a+b+c, 48 Position; Vertical)
signal-integrity model DIN 41612
part A pins: a1, a2, a3, a4, a5, a6, a7, a8, a9, a10, a11, a12, a13, a14, a15, a16
part B pins: b1, b2, b3, b4, b5, b6, b7, b8, b9, b10, b11, b12, b13, b14, b15, b16
part C pins: c1, c2, c3, c4, c5, c6, c7, c8, c9, c10, c11, c12, c13, c14, c15, c16
part D pins: 17 MH1 "Mounting Fixture", 18 MH2 "Mounting Fixture"

## 09 28 148 6995
designator P?
Eurocard DIN 41612, Type 2R, Half Size, 46+2 Position, Rows a+b+c, Performance level 2, Male, Lead 13.0 mm, Pitch 2.54 mm; Note: Two leading contacts at positions a1 & a16.; DrillSize: Corresponds to nominal value.; Published: 6-Oct-2005; DatasheetDocument: 24-Nov-2004; PackageReference: 0928148X995; Publisher: Altium Limited; ComponentLink1Description: Manufacturer Link; ComponentLink1URL: http://www.harting.com/
footprint 0928148X995 (Connector; DIN 41612, Type 2R, Thru-Hole; Rows a+b+c, 48 Position; Vertical)
signal-integrity model DIN 41612
part A pins: a1, a2, a3, a4, a5, a6, a7, a8, a9, a10, a11, a12, a13, a14, a15, a16
part B pins: b1, b2, b3, b4, b5, b6, b7, b8, b9, b10, b11, b12, b13, b14, b15, b16
part C pins: c1, c2, c3, c4, c5, c6, c7, c8, c9, c10, c11, c12, c13, c14, c15, c16
part D pins: 17 MH1 "Mounting Fixture", 18 MH2 "Mounting Fixture"

## 09 28 148 7902
designator P?
Eurocard DIN 41612, Type 2R, Half Size, 48 Position, Rows a+b+c, Performance level 3, Male, Lead 2.5 mm, Pitch 2.54 mm; DrillSize: Corresponds to nominal value.; Published: 6-Oct-2005; DatasheetDocument: 24-Nov-2004; PackageDocument: 11-Jun-2001; PackageReference: 0928148X902; Publisher: Altium Limited; ComponentLink1Description: Manufacturer Link; ComponentLink1URL: http://www.harting.com/; ComponentLink2Description: Packaging Specification; ComponentLink2URL: http://www.harkis.harting.com/_gds/pdf/TB_0928148x902_BL01_R29836.pdf
footprint 0928148X902 (Connector; DIN 41612, Type 2R, Thru-Hole; Rows a+b+c, 48 Position; Vertical)
signal-integrity model DIN 41612
part A pins: a1, a2, a3, a4, a5, a6, a7, a8, a9, a10, a11, a12, a13, a14, a15, a16
part B pins: b1, b2, b3, b4, b5, b6, b7, b8, b9, b10, b11, b12, b13, b14, b15, b16
part C pins: c1, c2, c3, c4, c5, c6, c7, c8, c9, c10, c11, c12, c13, c14, c15, c16
part D pins: 17 MH1 "Mounting Fixture", 18 MH2 "Mounting Fixture"

## 09 28 148 7903
designator P?
Eurocard DIN 41612, Type 2R, Half Size, 48 Position, Rows a+b+c, Performance level 3, Male, Lead 4.0 mm, Pitch 2.54 mm; DrillSize: Corresponds to nominal value.; Published: 6-Oct-2005; DatasheetDocument: 24-Nov-2004; PackageDocument: 11-Jun-2001; PackageReference: 0928148X903; Publisher: Altium Limited; ComponentLink1Description: Manufacturer Link; ComponentLink1URL: http://www.harting.com/; ComponentLink2Description: Packaging Specification; ComponentLink2URL: http://www.harkis.harting.com/_gds/pdf/TB_0928148x903_BL01_R29836.pdf
footprint 0928148X903 (Connector; DIN 41612, Type 2R, Thru-Hole; Rows a+b+c, 48 Position; Vertical)
signal-integrity model DIN 41612
part A pins: a1, a2, a3, a4, a5, a6, a7, a8, a9, a10, a11, a12, a13, a14, a15, a16
part B pins: b1, b2, b3, b4, b5, b6, b7, b8, b9, b10, b11, b12, b13, b14, b15, b16
part C pins: c1, c2, c3, c4, c5, c6, c7, c8, c9, c10, c11, c12, c13, c14, c15, c16
part D pins: 17 MH1 "Mounting Fixture", 18 MH2 "Mounting Fixture"

## 09 28 148 7904
designator P?
Eurocard DIN 41612, Type 2R, Half Size, 48 Position, Rows a+b+c, Performance level 3, Male, Lead 5.0 mm, Pitch 2.54 mm; DrillSize: Corresponds to nominal value.; Published: 6-Oct-2005; DatasheetDocument: 24-Nov-2004; PackageDocument: 21-Jun-2001; PackageReference: 0928148X904; Publisher: Altium Limited; ComponentLink1Description: Manufacturer Link; ComponentLink1URL: http://www.harting.com/; ComponentLink2Description: Packaging Specification; ComponentLink2URL: http://www.harkis.harting.com/_gds/pdf/TB_0928148x904_BL01_R29835.pdf
footprint 0928148X904 (Connector; DIN 41612, Type 2R, Thru-Hole; Rows a+b+c, 48 Position; Vertical)
signal-integrity model DIN 41612
part A pins: a1, a2, a3, a4, a5, a6, a7, a8, a9, a10, a11, a12, a13, a14, a15, a16
part B pins: b1, b2, b3, b4, b5, b6, b7, b8, b9, b10, b11, b12, b13, b14, b15, b16
part C pins: c1, c2, c3, c4, c5, c6, c7, c8, c9, c10, c11, c12, c13, c14, c15, c16
part D pins: 17 MH1 "Mounting Fixture", 18 MH2 "Mounting Fixture"

## 09 28 148 7907
designator P?
Eurocard DIN 41612, Type 2R, Half Size, 48 Position, Rows a+b+c, Performance level 3, Male, Lead 13.0 mm, Pitch 2.54 mm; DrillSize: Corresponds to nominal value.; Published: 6-Oct-2005; DatasheetDocument: 24-Nov-2004; PackageDocument: 07-Jun-2001; PackageReference: 0928148X907; Publisher: Altium Limited; ComponentLink1Description: Manufacturer Link; ComponentLink1URL: http://www.harting.com/; ComponentLink2Description: Packaging Specification; ComponentLink2URL: http://www.harkis.harting.com/_gds/pdf/TB_0928148x907_BL01_R29836.pdf
footprint 0928148X907 (Connector; DIN 41612, Type 2R, Thru-Hole; Rows a+b+c, 48 Position; Vertical)
signal-integrity model DIN 41612
part A pins: a1, a2, a3, a4, a5, a6, a7, a8, a9, a10, a11, a12, a13, a14, a15, a16
part B pins: b1, b2, b3, b4, b5, b6, b7, b8, b9, b10, b11, b12, b13, b14, b15, b16
part C pins: c1, c2, c3, c4, c5, c6, c7, c8, c9, c10, c11, c12, c13, c14, c15, c16
part D pins: 17 MH1 "Mounting Fixture", 18 MH2 "Mounting Fixture"

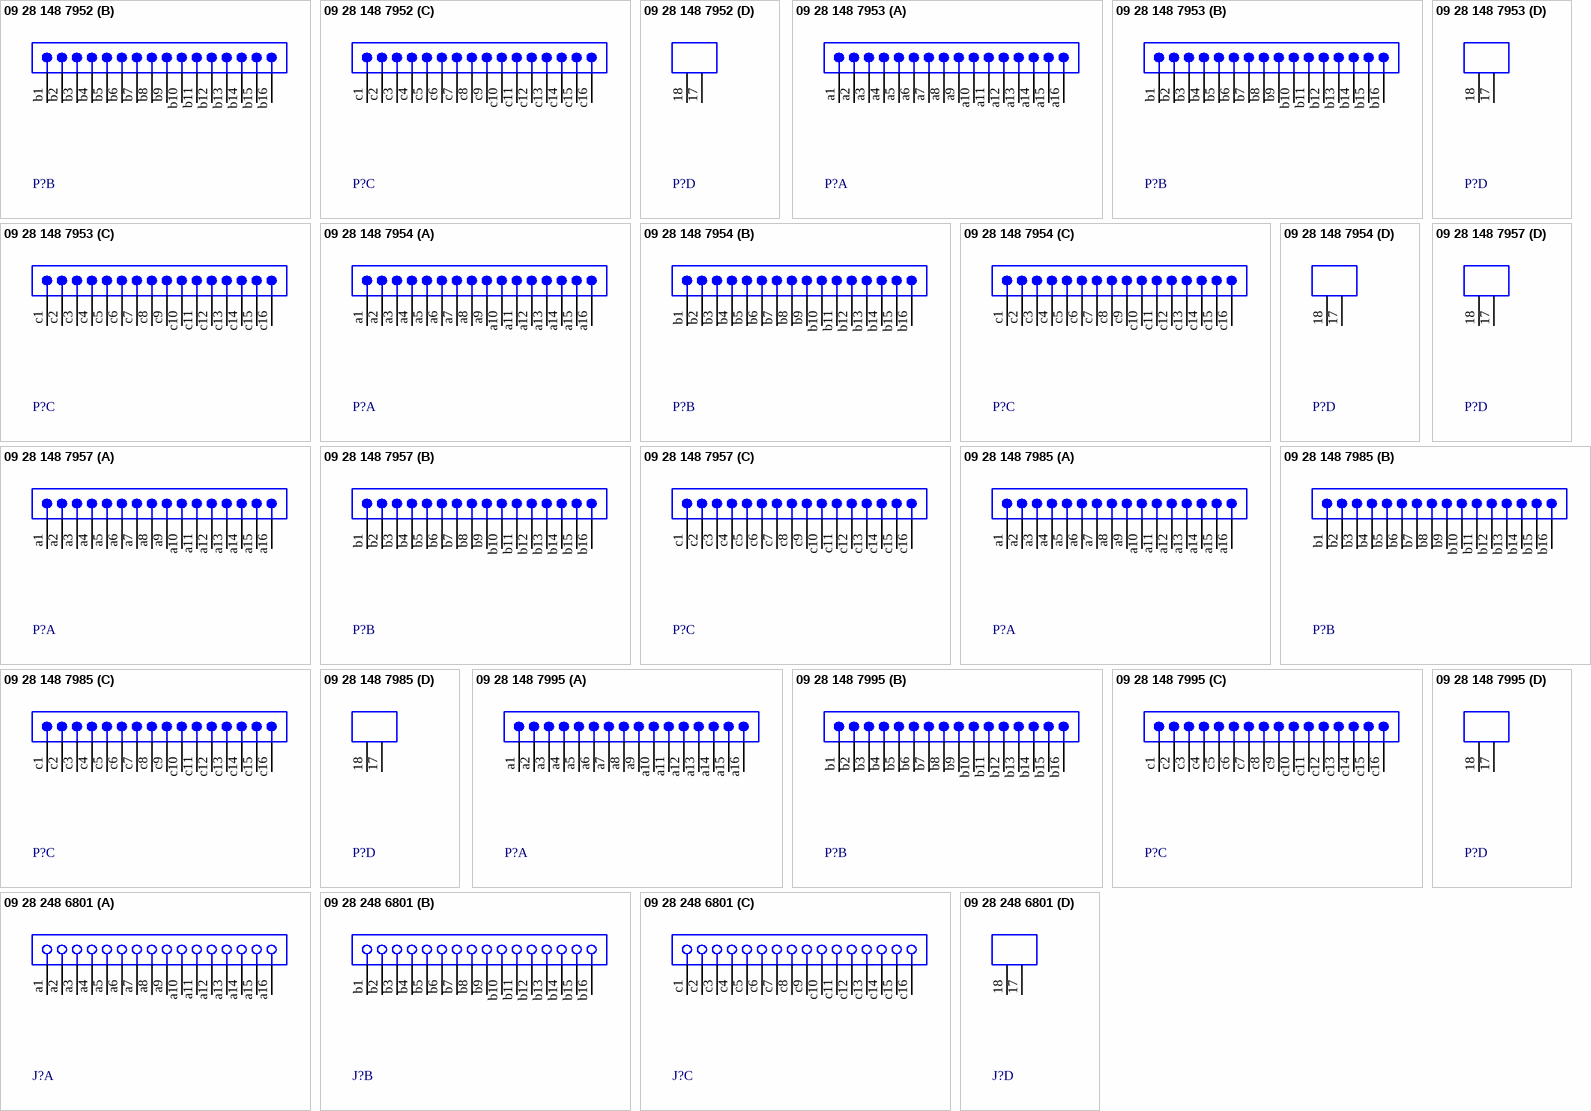
[diagram p3: symbols 09 28 148 7952 to 09 28 248 6801]

## 09 28 148 7952
designator P?
Eurocard DIN 41612, Type 2R, Half Size, 46+2 Position, Rows a+b+c, Performance level 3, Male, Lead 2.5 mm, Pitch 2.54 mm; Note: Two leading contacts at positions a1 & a16.; DrillSize: Corresponds to nominal value.; Published: 6-Oct-2005; DatasheetDocument: 24-Nov-2004; PackageReference: 0928148X952; Publisher: Altium Limited; ComponentLink1Description: Manufacturer Link; ComponentLink1URL: http://www.harting.com/
footprint 0928148X952 (Connector; DIN 41612, Type 2R, Thru-Hole; Rows a+b+c, 48 Position; Vertical)
signal-integrity model DIN 41612
part A pins: a1, a2, a3, a4, a5, a6, a7, a8, a9, a10, a11, a12, a13, a14, a15, a16
part B pins: b1, b2, b3, b4, b5, b6, b7, b8, b9, b10, b11, b12, b13, b14, b15, b16
part C pins: c1, c2, c3, c4, c5, c6, c7, c8, c9, c10, c11, c12, c13, c14, c15, c16
part D pins: 17 MH1 "Mounting Fixture", 18 MH2 "Mounting Fixture"

## 09 28 148 7953
designator P?
Eurocard DIN 41612, Type 2R, Half Size, 46+2 Position, Rows a+b+c, Performance level 3, Male, Lead 4.0 mm, Pitch 2.54 mm; Note: Two leading contacts at positions a1 & a16.; DrillSize: Corresponds to nominal value.; Published: 6-Oct-2005; DatasheetDocument: 24-Nov-2004; PackageReference: 0928148X953; Publisher: Altium Limited; ComponentLink1Description: Manufacturer Link; ComponentLink1URL: http://www.harting.com/
footprint 0928148X953 (Connector; DIN 41612, Type 2R, Thru-Hole; Rows a+b+c, 48 Position; Vertical)
signal-integrity model DIN 41612
part A pins: a1, a2, a3, a4, a5, a6, a7, a8, a9, a10, a11, a12, a13, a14, a15, a16
part B pins: b1, b2, b3, b4, b5, b6, b7, b8, b9, b10, b11, b12, b13, b14, b15, b16
part C pins: c1, c2, c3, c4, c5, c6, c7, c8, c9, c10, c11, c12, c13, c14, c15, c16
part D pins: 17 MH1 "Mounting Fixture", 18 MH2 "Mounting Fixture"

## 09 28 148 7954
designator P?
Eurocard DIN 41612, Type 2R, Half Size, 46+2 Position, Rows a+b+c, Performance level 3, Male, Lead 5.0 mm, Pitch 2.54 mm; Note: Two leading contacts at positions a1 & a16.; DrillSize: Corresponds to nominal value.; Published: 6-Oct-2005; DatasheetDocument: 24-Nov-2004; PackageReference: 0928148X954; Publisher: Altium Limited; ComponentLink1Description: Manufacturer Link; ComponentLink1URL: http://www.harting.com/
footprint 0928148X954 (Connector; DIN 41612, Type 2R, Thru-Hole; Rows a+b+c, 48 Position; Vertical)
signal-integrity model DIN 41612
part A pins: a1, a2, a3, a4, a5, a6, a7, a8, a9, a10, a11, a12, a13, a14, a15, a16
part B pins: b1, b2, b3, b4, b5, b6, b7, b8, b9, b10, b11, b12, b13, b14, b15, b16
part C pins: c1, c2, c3, c4, c5, c6, c7, c8, c9, c10, c11, c12, c13, c14, c15, c16
part D pins: 17 MH1 "Mounting Fixture", 18 MH2 "Mounting Fixture"

## 09 28 148 7957
designator P?
Eurocard DIN 41612, Type 2R, Half Size, 46+2 Position, Rows a+b+c, Performance level 3, Male, Lead 13.0 mm, Pitch 2.54 mm; Note: Two leading contacts at positions a1 & a16.; DrillSize: Corresponds to nominal value.; Published: 6-Oct-2005; DatasheetDocument: 24-Nov-2004; PackageReference: 0928148X957; Publisher: Altium Limited; ComponentLink1Description: Manufacturer Link; ComponentLink1URL: http://www.harting.com/
footprint 0928148X957 (Connector; DIN 41612, Type 2R, Thru-Hole; Rows a+b+c, 48 Position; Vertical)
signal-integrity model DIN 41612
part A pins: a1, a2, a3, a4, a5, a6, a7, a8, a9, a10, a11, a12, a13, a14, a15, a16
part B pins: b1, b2, b3, b4, b5, b6, b7, b8, b9, b10, b11, b12, b13, b14, b15, b16
part C pins: c1, c2, c3, c4, c5, c6, c7, c8, c9, c10, c11, c12, c13, c14, c15, c16
part D pins: 17 MH1 "Mounting Fixture", 18 MH2 "Mounting Fixture"

## 09 28 148 7985
designator P?
Eurocard DIN 41612, Type 2R, Half Size, 48 Position, Rows a+b+c, Performance level 3, Male, Lead 13.0 mm, Pitch 2.54 mm; DrillSize: Corresponds to nominal value.; Published: 6-Oct-2005; DatasheetDocument: 24-Nov-2004; PackageDocument: 07-Jun-2001; PackageReference: 0928148X985; Publisher: Altium Limited; ComponentLink1Description: Manufacturer Link; ComponentLink1URL: http://www.harting.com/; ComponentLink2Description: Packaging Specification; ComponentLink2URL: http://www.harkis.harting.com/_gds/pdf/TB_0928148x985_BL01_R29835.pdf
footprint 0928148X985 (Connector; DIN 41612, Type 2R, Thru-Hole; Rows a+b+c, 48 Position; Vertical)
signal-integrity model DIN 41612
part A pins: a1, a2, a3, a4, a5, a6, a7, a8, a9, a10, a11, a12, a13, a14, a15, a16
part B pins: b1, b2, b3, b4, b5, b6, b7, b8, b9, b10, b11, b12, b13, b14, b15, b16
part C pins: c1, c2, c3, c4, c5, c6, c7, c8, c9, c10, c11, c12, c13, c14, c15, c16
part D pins: 17 MH1 "Mounting Fixture", 18 MH2 "Mounting Fixture"

## 09 28 148 7995
designator P?
Eurocard DIN 41612, Type 2R, Half Size, 46+2 Position, Rows a+b+c, Performance level 3, Male, Lead 13.0 mm, Pitch 2.54 mm; Note: Two leading contacts at positions a1 & a16.; DrillSize: Corresponds to nominal value.; Published: 6-Oct-2005; DatasheetDocument: 24-Nov-2004; PackageReference: 0928148X995; Publisher: Altium Limited; ComponentLink1Description: Manufacturer Link; ComponentLink1URL: http://www.harting.com/
footprint 0928148X995 (Connector; DIN 41612, Type 2R, Thru-Hole; Rows a+b+c, 48 Position; Vertical)
signal-integrity model DIN 41612
part A pins: a1, a2, a3, a4, a5, a6, a7, a8, a9, a10, a11, a12, a13, a14, a15, a16
part B pins: b1, b2, b3, b4, b5, b6, b7, b8, b9, b10, b11, b12, b13, b14, b15, b16
part C pins: c1, c2, c3, c4, c5, c6, c7, c8, c9, c10, c11, c12, c13, c14, c15, c16
part D pins: 17 MH1 "Mounting Fixture", 18 MH2 "Mounting Fixture"

## 09 28 248 6801
designator J?
Eurocard DIN 41612, Type 2R, Half Size, 48 Position, Rows a+b, Performance level 2, Female, Lead 3.0 mm, Pitch 2.54 mm; DrillSize: Corresponds to nominal value.; Published: 6-Oct-2005; DatasheetDocument: 24-Nov-2004; PackageDocument: 11-Jul-2000; PackageReference: 0928248X801; Publisher: Altium Limited; ComponentLink1Description: Manufacturer Link; ComponentLink1URL: http://www.harting.com/; ComponentLink2Description: Packaging Specification; ComponentLink2URL: http://www.harkis.harting.com/_gds/pdf/TB_0928248x801_BL01_R28106.pdf
footprint 0928248X801 (Connector; DIN 41612, Type 2R, Thru-Hole; Rows a+b+c, 48 Position; Vertical)
signal-integrity model DIN 41612
part A pins: a1, a2, a3, a4, a5, a6, a7, a8, a9, a10, a11, a12, a13, a14, a15, a16
part B pins: b1, b2, b3, b4, b5, b6, b7, b8, b9, b10, b11, b12, b13, b14, b15, b16
part C pins: c1, c2, c3, c4, c5, c6, c7, c8, c9, c10, c11, c12, c13, c14, c15, c16
part D pins: 17 MH1 "Mounting Fixture", 18 MH2 "Mounting Fixture"